# Altium schematic symbol library RINALDOSCHEMS.SchLib: 5 symbols
Pins are listed as number, name and electrical type; pins without a type are passive.

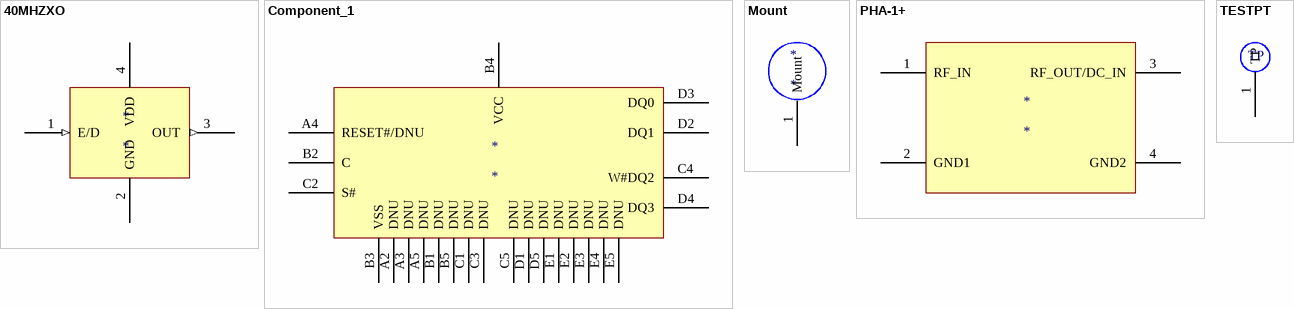
[diagram p0: symbols 40MHZXO to TESTPT]

## 40MHZXO
designator *
pins: 1 E/D (in), 2 GND (power), 3 OUT (out), 4 VDD

## Component_1
designator *
footprint BGA25C100P5X5_800X600X120N
pins: A2 DNU, A3 DNU, A4 RESET#/DNU, A5 DNU, B1 DNU, B2 C, B3 VSS (power), B4 VCC (power), B5 DNU, C1 DNU, C2 S#, C3 DNU, C4 W#DQ2, C5 DNU, D1 DNU, D2 DQ1, D3 DQ0, D4 DQ3, D5 DNU, E1 DNU, E2 DNU, E3 DNU, E4 DNU, E5 DNU

## Mount
designator *
pins: 1 Mount

## PHA-1+
designator *
pins: 1 RF_IN, 2 GND1, 3 RF_OUT/DC_IN, 4 GND2

## TESTPT
designator TP, comment TEST POINT  (value not drawn)  (no BOM)
footprint TESTPOINT1 (TEST POINT PLUTO)
pins: 1 TP